# EAGLE library part SN74ALVC164245DGGR (library RoboRacing_STM)
16-Bit 2.5-V to 3.3-V/3.3-V To 5-V Level Shifting Transceiver With 3-State Outputs 48-TSSOP -40 to 85
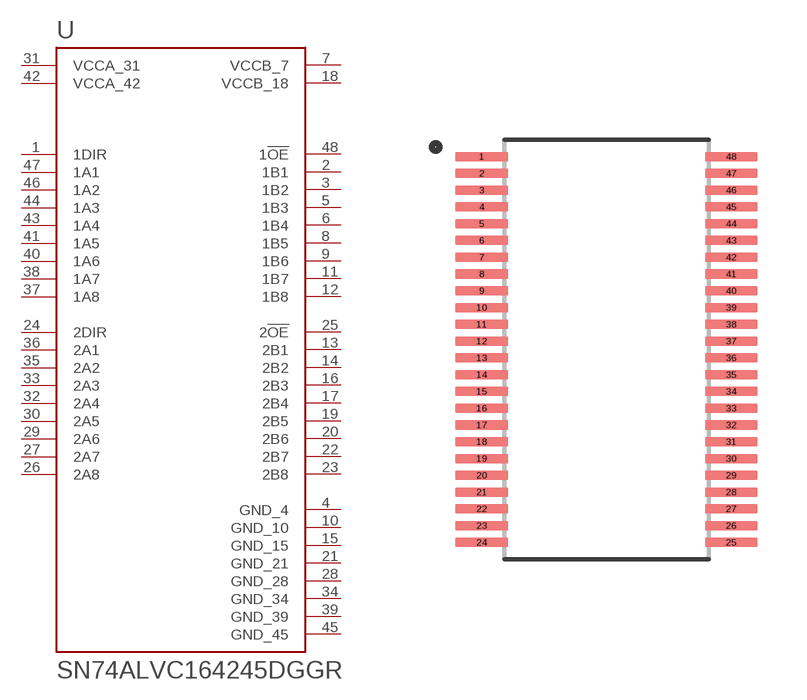
[diagram p3: symbol with the pads of SOP50P810X120-48N; footprint SOP50P810X120-48N]

Designator prefix U

## SN74ALVC164245DGGR (MANUFACTURER: Texas Instruments; MAXIMUM_PACKAGE_HEIGHT: 1.20 mm; PARTREV: Q; STANDARD: IPC-7351B)  [SOP50P810X120-48N]
1  1DIR  in
2  1B1
3  1B2
4  GND_4  pwr
5  1B3
6  1B4
7  VCCB_7  pwr
8  1B5
9  1B6
10  GND_10  pwr
11  1B7
12  1B8
13  2B1
14  2B2
15  GND_15  pwr
16  2B3
17  2B4
18  VCCB_18  pwr
19  2B5
20  2B6
21  GND_21  pwr
22  2B7
23  2B8
24  2DIR  in
25  2!OE  in
26  2A8
27  2A7
28  GND_28  pwr
29  2A6
30  2A5
31  VCCA_31  pwr
32  2A4
33  2A3
34  GND_34  pwr
35  2A2
36  2A1
37  1A8
38  1A7
39  GND_39  pwr
40  1A6
41  1A5
42  VCCA_42  pwr
43  1A4
44  1A3
45  GND_45  pwr
46  1A2
47  1A1
48  1!OE  in

## Footprint SOP50P810X120-48N (pad centres in mm)
smd 1.57 x 0.28: 1 -3.72,5.75; 2 -3.72,5.25; 3 -3.72,4.75; 4 -3.72,4.25; 5 -3.72,3.75; 6 -3.72,3.25; 7 -3.72,2.75; 8 -3.72,2.25; 9 -3.72,1.75; 10 -3.72,1.25; 11 -3.72,0.75; 12 -3.72,0.25; 13 -3.72,-0.25; 14 -3.72,-0.75; 15 -3.72,-1.25; 16 -3.72,-1.75; 17 -3.72,-2.25; 18 -3.72,-2.75; 19 -3.72,-3.25; 20 -3.72,-3.75; 21 -3.72,-4.25; 22 -3.72,-4.75; 23 -3.72,-5.25; 24 -3.72,-5.75; 25 3.72,-5.75; 26 3.72,-5.25; 27 3.72,-4.75; 28 3.72,-4.25; 29 3.72,-3.75; 30 3.72,-3.25; 31 3.72,-2.75; 32 3.72,-2.25; 33 3.72,-1.75; 34 3.72,-1.25; 35 3.72,-0.75; 36 3.72,-0.25; 37 3.72,0.25; 38 3.72,0.75; 39 3.72,1.25; 40 3.72,1.75; 41 3.72,2.25; 42 3.72,2.75; 43 3.72,3.25; 44 3.72,3.75; 45 3.72,4.25; 46 3.72,4.75; 47 3.72,5.25; 48 3.72,5.75